# Altium schematic symbol library Diode_SunLED_XZMDKCBDDG45S-9_eec.SchLib: 1 symbol
Pins are listed as number, name and electrical type; pins without a type are passive.

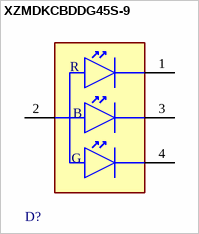
[diagram p0: symbol XZMDKCBDDG45S-9]

## XZMDKCBDDG45S-9
designator D?  (value not drawn)
pins: 1 RED C, 2 COMMON ANODE, 3 BLUE C, 4 GREEN C
text: R; B; G